# EAGLE library part M66 (library M66)
Basic features: M66 is a Quad-band GSM/GPRS engine that works at frequencies of GSM850MHz, EGSM900MHz, DCS1800MHz and PCS1900MHz. The M66 features GPRS multi-slot class 12 and supports the GPRS coding schemes CS-1, CS-2, CS-3 and CS-4.
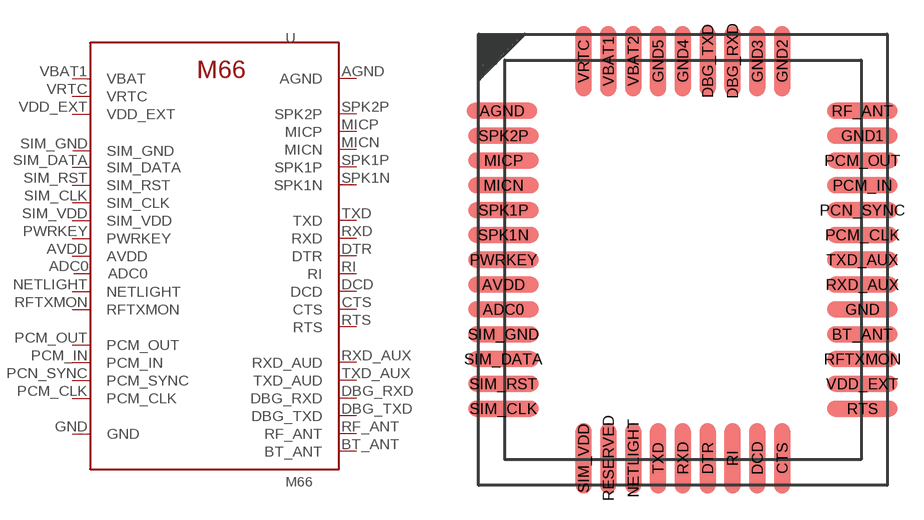
[diagram p0: symbol with the pads of M66; footprint M66]

Designator prefix -

## M66 (POWERSUPPLY: 3.3V~4.6V)  [M66]
ADC0  ADC0  in
AGND  AGND  pas
AVDD  AVDD  out
BT_ANT  BT_ANT  out
CTS  CTS  out
DBG_RXD  DBG_RXD  in
DBG_TXD  DBG_TXD  out
DCD  DCD  out
DTR  DTR  in
GND  GND  pwr
MICN  MICN  in
MICP  MICP  in
NETLIGHT  NETLIGHT  out
PCM_CLK  PCM_CLK  out
PCM_IN  PCM_IN  in
PCM_OUT  PCM_OUT  out
PCN_SYNC  PCM_SYNC  out
PWRKEY  PWRKEY  in
RF_ANT  RF_ANT  out
RFTXMON  RFTXMON  out
RI  RI  out
RTS  RTS  in
RXD  RXD  in
RXD_AUX  RXD_AUD  in
SIM_CLK  SIM_CLK  out
SIM_DATA  SIM_DATA  out
SIM_GND  SIM_GND  pas
SIM_RST  SIM_RST  out
SIM_VDD  SIM_VDD  out
SPK1N  SPK1N  out
SPK1P  SPK1P  out
SPK2P  SPK2P  out
TXD  TXD  out
TXD_AUX  TXD_AUD  out
VBAT1  VBAT  pwr
VDD_EXT  VDD_EXT  out
VRTC  VRTC

## Footprint M66 (pad centres in mm)
smd 3.125 x 0.7: ADC0 -7.95,-2.2; AGND -8.012,6.6; AVDD -7.95,-1.1; BT_ANT 7.95,-3.3; GND 7.95,-2.2; GND1 7.95,5.5; MICN -7.95,3.3; MICP -7.95,4.4; PCM_CLK 7.95,1.1; PCM_IN 7.95,3.3; PCM_OUT 7.95,4.4; PCN_SYNC 7.95,2.2; PWRKEY -7.95,0; RF_ANT 7.95,6.6; RFTXMON 7.95,-4.4; RTS 7.95,-6.6; RXD_AUX 7.95,-1.1; SIM_CLK -7.95,-6.6; SIM_DATA -7.95,-4.4; SIM_GND -7.95,-3.3; SIM_RST -7.95,-5.5; SPK1N -7.95,1.1; SPK1P -7.95,2.2; SPK2P -7.95,5.5; TXD_AUX 7.95,0; VDD_EXT 7.95,-5.5
smd 0.7 x 3.125: CTS 4.4,-8.8; DBG_RXD 2.2,8.8; DBG_TXD 1.1,8.8; DCD 3.3,-8.8; DTR 1.1,-8.8; GND2 4.4,8.8; GND3 3.3,8.8; GND4 0,8.8; GND5 -1.1,8.8; NETLIGHT -2.2,-8.8; RESERVED -3.3,-8.8; RI 2.2,-8.8; RXD 0,-8.8; SIM_VDD -4.4,-8.8; TXD -1.1,-8.8; VBAT1 -3.3,8.8; VBAT2 -2.2,8.8; VRTC -4.4,8.8